# Altium footprint library SWITCH.PcbLib: 1 footprints
Each footprint in its own frame and in the unit in brackets; x right, y up, seen from the top. Pads: shape width x height; smd on the part's side, far side on the other; paste and mask are expansions set on the pad; w line width, h text height; cw(c..) or ccw(c..) is an arc to the next point about the centre after c.
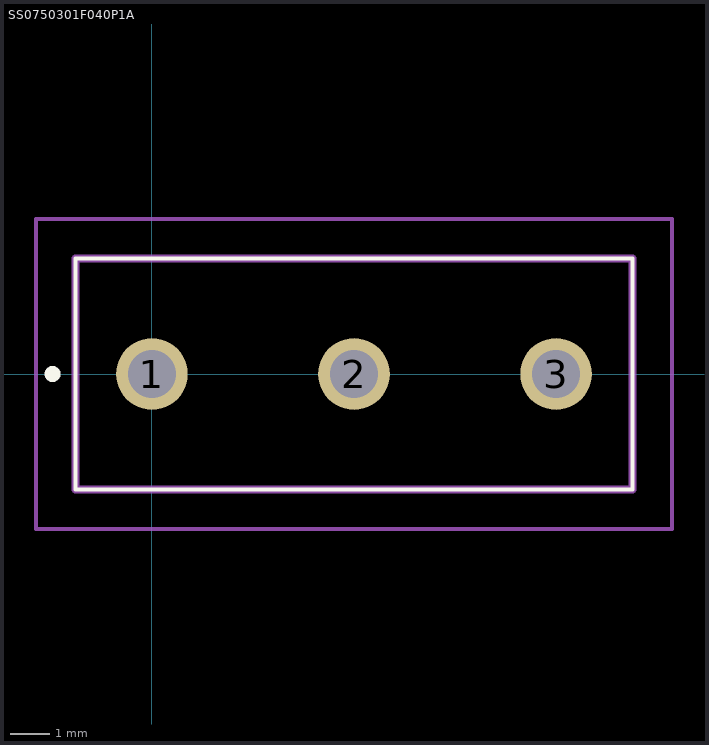
[diagram p0: the footprint, top view; thin cyan lines are the x and y axes]

## SS0750301F040P1A [mm]
pads (3):
  round 1.8 hole 1.2: 1(0,0) 2(5.08,0) 3(10.16,0)
Top Overlay:
  lines w0.1: -1.92,-2.9 12.08,-2.9 12.08,2.9 -1.92,2.9 -1.92,-2.9
  lines w0.2: -2.6,0 cw(c-2.5,0) -2.4,0 ; -2.6,0 -2.6,0 ; -2.6,0 ccw(c-2.5,0) -2.4,0 ; -2.4,0 -2.4,0
Mechanical 15:
  lines w0.2: -1.92,-2.9 12.08,-2.9 12.08,2.9 -1.92,2.9 -1.92,-2.9
Mechanical 20:
  lines w0.1: -2.92,-3.9 13.08,-3.9 13.08,3.9 -2.92,3.9 -2.92,-3.9